# EAGLE library part STM8L051F3 (library new_parts)
ST STM8L051F3 Low-Power MCU STM8L051F3 features an enhanced STM8 CPU core providing increased processing power (up to 16 MIPS at 16 MHz) while maintaining the advantages of a CISC architecture with improved code density, a 24-bit linear addressing space and an optimized architecture for low-power operations. The STM8L051F3 MCU includes an integrated debug module with a hardware interface (SWIM) which allows non-intrusive In-Application debugging and ultra-fast Flash programming. It features an embedded data EEPROM and low-power, low-voltage, singlesupply program Flash memory. The device incorporates an extensive range of enhanced I/Os and peripherals, a 12-bit ADC, a real-time clock, two 16-bit timers, one 8-bit timer, as well as standard communication interfaces such as an SPI, an I2C interface, and one USART. The modular design of the peripheral set allows this device to have the same peripherals that can be found in different ST microcontroller families including 32-bit families. This makes any transition to a different family very easy, supported also by the use of a common set of development tools.
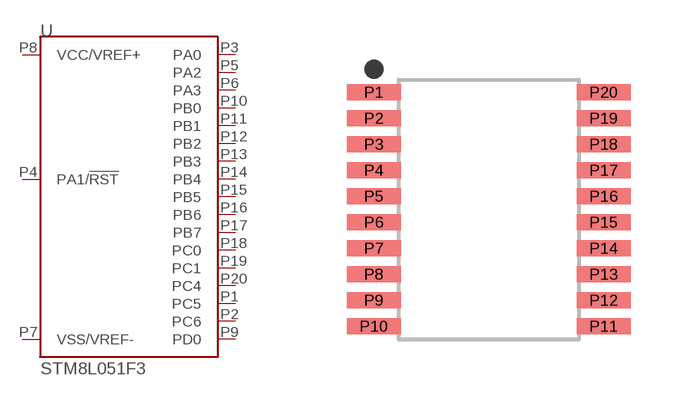
[diagram p1: symbol with the pads of TSSOP20; footprint TSSOP20]

Designator prefix U

## STM8L051F3 (PROD_ID: IC-21318)  [TSSOP20]
P1  PC5
P2  PC6
P3  PA0
P4  PA1/!RST!
P5  PA2
P6  PA3
P7  VSS/VREF-
P8  VCC/VREF+
P9  PD0
P10  PB0
P11  PB1
P12  PB2
P13  PB3
P14  PB4
P15  PB5
P16  PB6
P17  PB7
P18  PC0
P19  PC1
P20  PC4

## Footprint TSSOP20 (pad centres in mm)
TSSOP20 Mechanical Specifications: Pad Size: 1.35mm x .4mm Pin count: 20 Pin pitch: .65mm Package Size: 4.5mm x 6.5mm
smd 1.35 x 0.4: P1 -2.911,2.878; P2 -2.911,2.228; P3 -2.911,1.578; P4 -2.911,0.928; P5 -2.911,0.278; P6 -2.911,-0.372; P7 -2.911,-1.022; P8 -2.911,-1.672; P9 -2.911,-2.322; P10 -2.911,-2.972; P11 2.839,-2.972; P12 2.839,-2.322; P13 2.839,-1.672; P14 2.839,-1.022; P15 2.839,-0.372; P16 2.839,0.278; P17 2.839,0.928; P18 2.839,1.578; P19 2.839,2.228; P20 2.839,2.878